# EAGLE library part ESP32-WROOM-32D (library SamacSys_Parts)
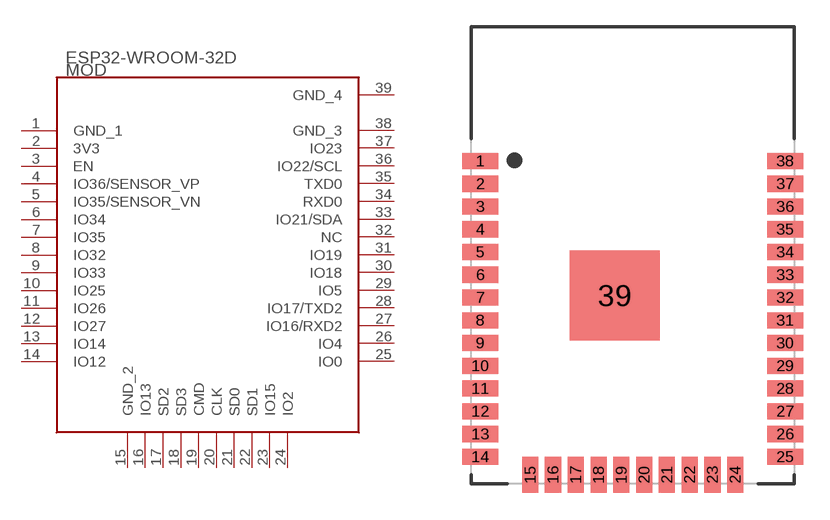
[diagram p1: symbol with the pads of ESP32-WROOM-32D; footprint ESP32-WROOM-32D]

Designator prefix MOD

## ESP32-WROOM-32D  [ESP32-WROOM-32D]
1  GND_1  pwr
2  3V3  pwr
3  EN
4  IO36/SENSOR_VP
5  IO35/SENSOR_VN
6  IO34
7  IO35
8  IO32
9  IO33
10  IO25
11  IO26
12  IO27
13  IO14
14  IO12
15  GND_2  pwr
16  IO13
17  SD2
18  SD3
19  CMD
20  CLK
21  SD0
22  SD1
23  IO15
24  IO2
25  IO0
26  IO4
27  IO16/RXD2
28  IO17/TXD2
29  IO5
30  IO18
31  IO19
32  NC  nc
33  IO21/SDA
34  RXD0
35  TXD0
36  IO22/SCL
37  IO23
38  GND_3  pwr
39  GND_4  pwr

## Footprint ESP32-WROOM-32D (pad centres in mm)
ESP32-WROOM-32D-1
smd 2 x 0.9: 1 -8.537,8.292; 2 -8.537,7.022; 3 -8.537,5.752; 4 -8.537,4.482; 5 -8.537,3.212; 6 -8.537,1.942; 7 -8.537,0.672; 8 -8.537,-0.598; 9 -8.537,-1.868; 10 -8.537,-3.138; 11 -8.537,-4.408; 12 -8.537,-5.678; 13 -8.537,-6.948; 14 -8.537,-8.218; 25 8.463,-8.218; 26 8.463,-6.948; 27 8.463,-5.678; 28 8.463,-4.408; 29 8.463,-3.138; 30 8.463,-1.868; 31 8.463,-0.598; 32 8.463,0.672; 33 8.463,1.942; 34 8.463,3.212; 35 8.463,4.482; 36 8.463,5.752; 37 8.463,7.022; 38 8.463,8.292
smd 0.9 x 2: 15 -5.752,-9.218; 16 -4.482,-9.218; 17 -3.212,-9.218; 18 -1.942,-9.218; 19 -0.672,-9.218; 20 0.598,-9.218; 21 1.868,-9.218; 22 3.138,-9.218; 23 4.408,-9.218; 24 5.678,-9.218
smd 5 x 5: 39 -1.037,0.792